# Altium footprint library TI.PcbLib: 2 footprints
Each footprint in its own frame and in the unit in brackets; x right, y up, seen from the top. Pads: shape width x height; smd on the part's side, far side on the other; paste and mask are expansions set on the pad; w line width, h text height; cw(c..) or ccw(c..) is an arc to the next point about the centre after c.
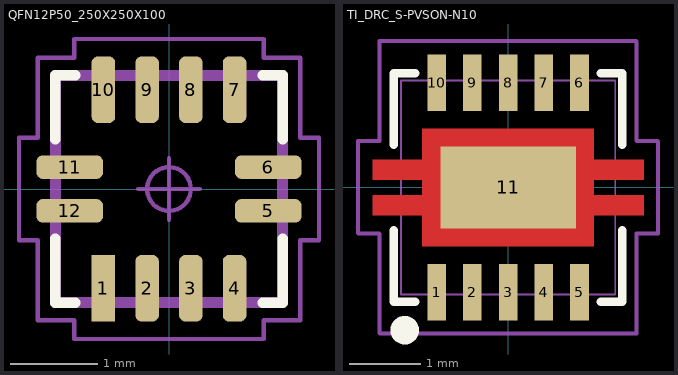
[diagram p0: the footprints below, top view; thin cyan lines are the x and y axes]

## QFN12P50_250X250X100 [mm] "12-VQFN (2.5x2.5)"
height 1
pads (12):
  rect 0.27x0.76 smd: 1(-0.75,-1.135)
  rrect52% 0.27x0.76 smd: 2(-0.25,-1.135) 3(0.25,-1.135) 4(0.75,-1.135) 7(0.75,1.135) 8(0.25,1.135) 9(-0.25,1.135) 10(-0.75,1.135)
  rrect52% 0.76x0.27 smd: 5(1.135,-0.25) 6(1.135,0.25) 11(-1.135,0.25) 12(-1.135,-0.25)
Top Overlay:
  lines w0.12: -1.3,-0.57 -1.3,-1.3 -1.07,-1.3 ; -1.3,0.57 -1.3,1.3 -1.07,1.3 ; 1.07,-1.3 1.3,-1.3 1.3,-0.57 ; 1.07,1.3 1.3,1.3 1.3,0.57
Assembly Top:
  lines w0.12: -1.3,-1.3 -1.3,1.3 1.3,1.3 1.3,-1.3 -1.3,-1.3
3D Top:
  lines w0.025: -1.25,-1.25 -1.25,1.25 1.25,1.25 1.25,-1.25 -1.25,-1.25
Courtyard Top:
  circle w0.05: c0,0 r0.25
  lines w0.05: -0.35,0 0.35,0 ; 0,-0.35 0,0.35 ; -1.715,-0.585 -1.715,0.585 -1.5,0.585 -1.5,1.5 -1.085,1.5 -1.085,1.715 1.085,1.715 1.085,1.5 1.5,1.5 1.5,0.585 1.715,0.585 1.715,-0.585 1.5,-0.585 1.5,-1.5 1.085,-1.5 1.085,-1.715 -1.085,-1.715 -1.085,-1.5 -1.5,-1.5 -1.5,-0.585 -1.715,-0.585
3D body: height 0.97, standoff -0.03, extent -1.3,-1.3 1.3,1.3

## TI_DRC_S-PVSON-N10 [mm]
height 1
pads (11):
  rect 0.26x0.79 smd: 1(-1,-1.47) 2(-0.5,-1.47) 3(0,-1.47) 4(0.5,-1.47) 5(1,-1.47) 6(1,1.47) 7(0.5,1.47) 8(0,1.47) 9(-0.5,1.47) 10(-1,1.47)
  rect 1.9x1.15 smd: 11(0,0)
Top Layer:
  region: 1.2,-0.825 -1.2,-0.825 -1.2,-0.39 -1.9,-0.39 -1.9,-0.11 -1.2,-0.11 -1.2,0.11 -1.9,0.11 -1.9,0.39 -1.2,0.39 -1.2,0.825 1.2,0.825 1.2,0.39 1.9,0.39 1.9,0.11 1.2,0.11 1.2,-0.11 1.9,-0.11 1.9,-0.39 1.2,-0.39
Top Overlay:
  circle w0.2: c-1.45,-2 r0.1
  lines w0.12: -1.6,-0.6 -1.6,-1.6 -1.3,-1.6 ; -1.6,0.6 -1.6,1.6 -1.3,1.6 ; 1.3,-1.6 1.6,-1.6 1.6,-0.6 ; 1.3,1.6 1.6,1.6 1.6,0.6
Assembly Top:
  lines w0.05: -2.103,-0.643 -2.103,0.657 -1.803,0.657 -1.803,2.057 1.797,2.057 1.797,0.657 2.097,0.657 2.097,-0.643 1.797,-0.643 1.797,-2.043 -1.803,-2.043 -1.803,-0.643 -2.103,-0.643
  text ".designator" at -1.803,-0.381 h1.02
3D Top:
  lines w0.025: -1.5,-1.5 -1.5,1.5 1.5,1.5 1.5,-1.5 -1.5,-1.5
Courtyard Top:
  circle w0.05: c0,0 r0.25
  lines w0.05: -0.35,0 0.35,0 ; 0,-0.35 0,0.35 ; -2.1,-0.65 -1.8,-0.65 -1.8,-2.05 1.8,-2.05 1.8,-0.65 2.1,-0.65 2.1,0.65 1.8,0.65 1.8,2.05 -1.8,2.05 -1.8,0.65 -2.1,0.65 -2.1,-0.65
3D body: height 0.67, standoff -0.03, extent -1.501,-1.499 1.499,1.511